# Altium schematic symbol library SCH_USB_Connector.SchLib: 11 symbols
Pins are listed as number, name and electrical type; pins without a type are passive.

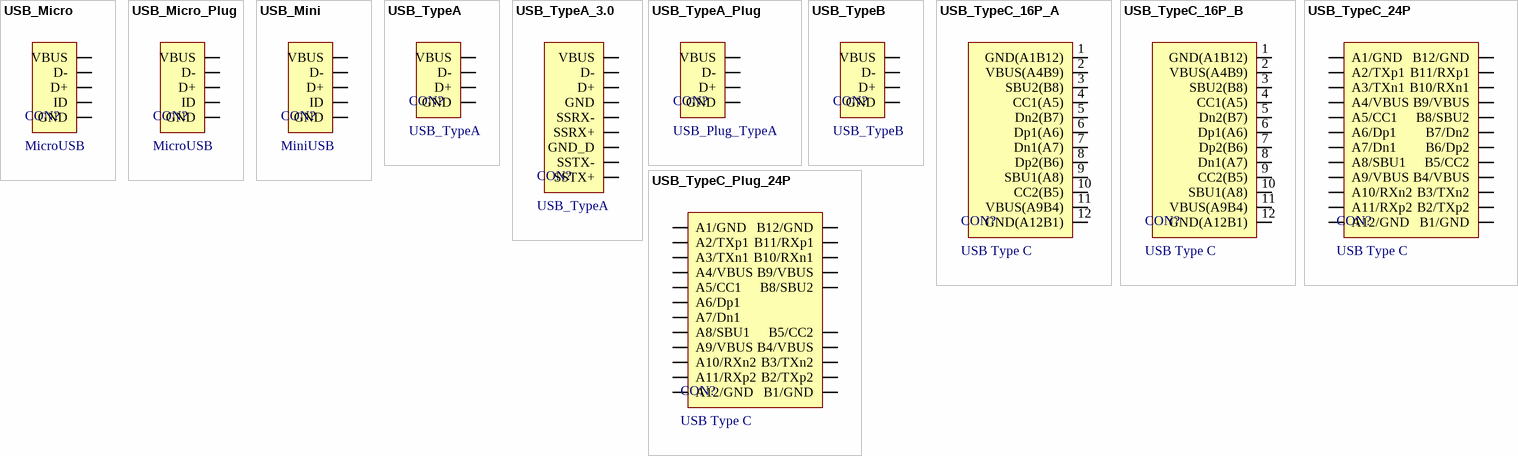
[diagram p0: symbols USB_Micro to USB_TypeC_Plug_24P]

## USB_Micro
designator CON?, comment MicroUSB
USB Micro; Manufacturer: Amphenol FCI; Value: Type B; Type: Female; Link: https://www.mouser.tw/ProductDetail/Amphenol-FCI/10118194-0001LF?qs=sGAEpiMZZMuhucAexPYLenOYR6pj7lkm; Datasheet: https://www.amphenol-icc.com/media/wysiwyg/files/drawing/10118194.pdf
footprint USB_Micro_B
footprint USB_Micro_AB
pins: 1 VBUS, 2 D-, 3 D+, 4 ID, 5 GND, SH

## USB_Micro_Plug
designator CON?, comment MicroUSB
USB Micro; Value: Type B; Type: Male; Link: *; Manufacturer: *; Datasheet: *
footprint USB_Micro_A
pins: 1 VBUS, 2 D-, 3 D+, 4 ID, 5 GND, SH

## USB_Mini
designator CON?, comment MiniUSB
USB Mini; Value: Type B; Type: Female; Link: *; Manufacturer: *; Datasheet: *
footprint USB_Mini_B
pins: 1 VBUS, 2 D-, 3 D+, 4 ID, 5 GND, SH

## USB_TypeA
designator CON?
USB TypeA; Type: Female; Value: Type A; Link: *; Manufacturer: *; Datasheet: *
footprint USB_TypeA
pins: 1 VBUS, 2 D-, 3 D+, 4 GND, SH

## USB_TypeA_3.0
designator CON?, comment USB_TypeA
USB TypeA; Value: Type A 3.0; Type: Female; Link: *; Manufacturer: *; Datasheet: *
footprint USB_TypeA_3.0
pins: 1 VBUS, 2 D-, 3 D+, 4 GND, 5 SSRX-, 6 SSRX+, 7 GND_D, 8 SSTX-, 9 SSTX+, SH

## USB_TypeA_Plug
designator CON?, comment USB_Plug_TypeA
USB TypeA; Type: Male; Value: Type A; Link: *; Manufacturer: *; Datasheet: *
footprint USB_TypeA_Plug_PCB
footprint USB_TypeA_Plug
pins: 1 VBUS, 2 D-, 3 D+, 4 GND, SH

## USB_TypeB
designator CON?
USB TypeB; Type: Female; Value: Type B; Link: *; Manufacturer: *; Datasheet: *
footprint USB_TypeB
pins: 1 VBUS, 2 D-, 3 D+, 4 GND, SH

## USB_TypeC_16P_A
designator CON?, comment USB Type C
USB TypeC; Link: *; Value: Type C; Type: Female; Manufacturer: *; Datasheet: *; Note: *
footprint USB_TypeC_16P
pins: 1 GND(A1B12), 2 VBUS(A4B9), 3 SBU2(B8), 4 CC1(A5), 5 Dn2(B7), 6 Dp1(A6), 7  Dn1(A7), 8  Dp2(B6), 9 SBU1(A8), 10 CC2(B5), 11 VBUS(A9B4), 12 GND(A12B1), SH

## USB_TypeC_16P_B
designator CON?, comment USB Type C
USB TypeC; Link: *; Value: Type C; Type: Female; Manufacturer: *; Datasheet: *; Note: *
footprint USB_TypeC_16P
pins: 1 GND(A1B12), 2 VBUS(A4B9), 3 SBU2(B8), 4 CC1(A5), 5 Dn2(B7), 6 Dp1(A6), 7  Dp2(B6), 8  Dn1(A7), 9 CC2(B5), 10 SBU1(A8), 11 VBUS(A9B4), 12 GND(A12B1), SH

## USB_TypeC_24P
designator CON?, comment USB Type C
USB TypeC; Link: *; Value: Type C; Type: Female; Manufacturer: *; Datasheet: http://www.kycon.com/Pub_Eng_Draw/KUSBX-SMT-CS2-XTR.pdf; Note: *
footprint USB_TypeC_DS_24P
footprint USB_TypeC_24P
pins: A1 A1/GND, A2 A2/TXp1, A3 A3/TXn1, A4 A4/VBUS, A5 A5/CC1, A6 A6/Dp1, A7 A7/Dn1, A8 A8/SBU1, A9 A9/VBUS, A10 A10/RXn2, A11 A11/RXp2, A12 A12/GND, B1 B1/GND, B2 B2/TXp2, B3 B3/TXn2, B4 B4/VBUS, B5 B5/CC2, B6 B6/Dp2, B7 B7/Dn2, B8 B8/SBU2, B9 B9/VBUS, B10 B10/RXn1, B11 B11/RXp1, B12 B12/GND, SH

## USB_TypeC_Plug_24P
designator CON?, comment USB Type C
USB TypeC; Manufacturer: Wurth Elektronik; Link: https://www.mouser.tw/ProductDetail/Wurth-Elektronik/632712000021?qs=t3bE0qb%2FqEILmrokuQzCgg%3D%3D; Value: Type C; Type: Male; Datasheet: *
footprint USB_TypeC_Plug_DS_24P
pins: A1 A1/GND, A2 A2/TXp1, A3 A3/TXn1, A4 A4/VBUS, A5 A5/CC1, A6 A6/Dp1, A7 A7/Dn1, A8 A8/SBU1, A9 A9/VBUS, A10 A10/RXn2, A11 A11/RXp2, A12 A12/GND, B1 B1/GND, B2 B2/TXp2, B3 B3/TXn2, B4 B4/VBUS, B5 B5/CC2, B8 B8/SBU2, B9 B9/VBUS, B10 B10/RXn1, B11 B11/RXp1, B12 B12/GND, SH